# Altium footprint library TinyArduinoPCB.PcbLib: 9 footprints
Each footprint in its own frame and in the unit in brackets; x right, y up, seen from the top. Pads: shape width x height; smd on the part's side, far side on the other; paste and mask are expansions set on the pad; w line width, h text height; cw(c..) or ccw(c..) is an arc to the next point about the centre after c.
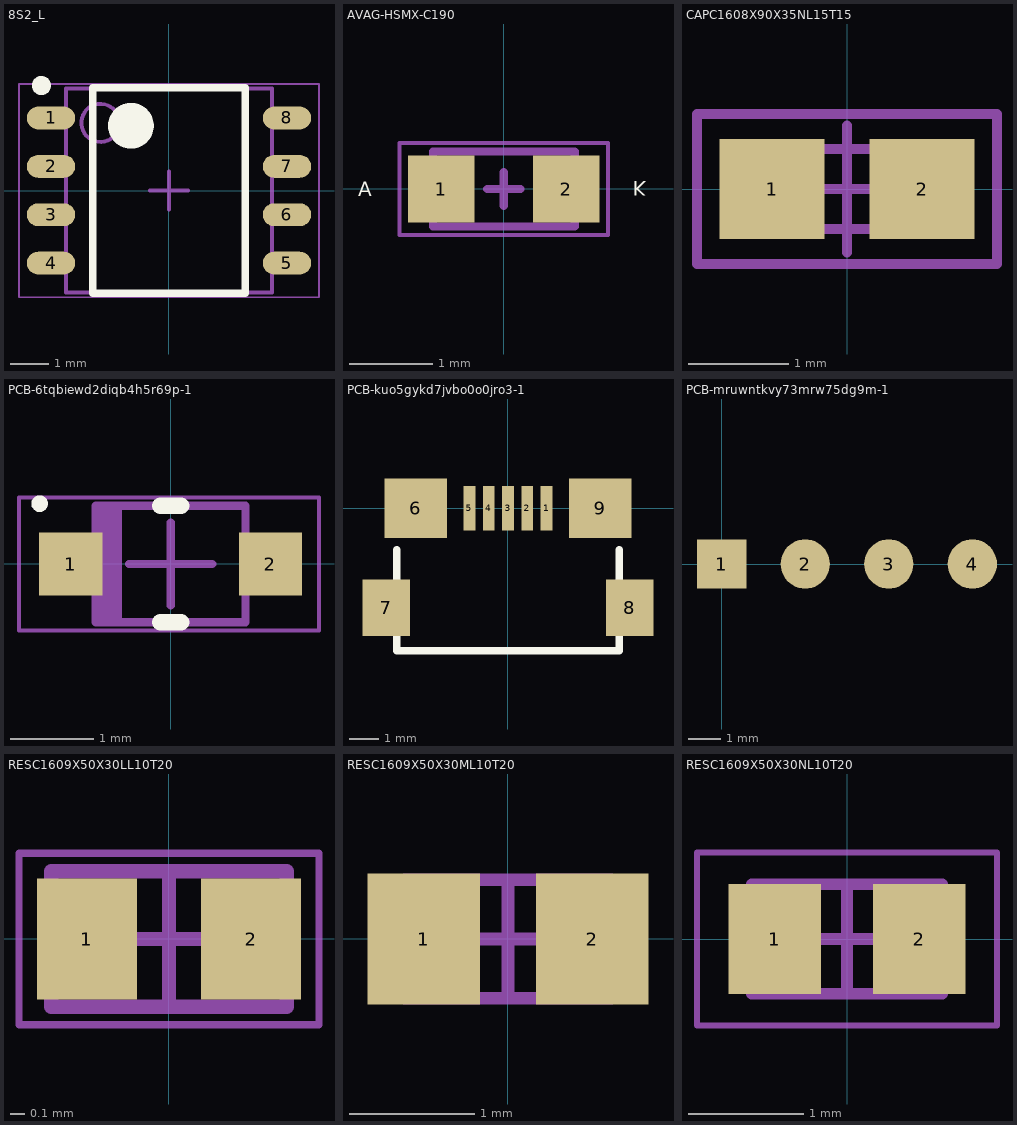
[diagram p0: the footprints below, top view; thin cyan lines are the x and y axes]

## 8S2_L [mm] "SOP, 8-Leads, Body 5.3x5.3mm, Pitch 1.27mm, IPC High Density"
height 2.16
pads (8):
  oval 1.27x0.6 smd: 1(-3.096,1.905) 2(-3.096,0.635) 3(-3.096,-0.635) 4(-3.096,-1.905) 5(3.096,-1.905) 6(3.096,-0.635) 7(3.096,0.635) 8(3.096,1.905)
Top Overlay:
  circle w0.6: c-1,1.7 r0.3
  circle w0.25: c-3.35,2.755 r0.125
  lines w0.2: -2,-2.7 2,-2.7 2,2.7 1,2.7 -1,2.7 -2,2.7 -2,-2.7
Mechanical 13:
  circle w0.1: c-1.8,1.775 r0.5
  lines w0.1: -2.7,-2.675 2.7,-2.675 2.7,2.675 -2.7,2.675 -2.7,-2.675
Mechanical 15:
  lines w0.05: -3.937,-2.8 3.937,-2.8 3.937,2.8 -3.937,2.8 -3.937,-2.8
  lines w0.1: -0.5,0 0.5,0 ; 0,-0.5 0,0.5
3D body: height 2.16, standoff 0.05, extent -2.7,-2.675 2.7,2.675

## AVAG-HSMX-C190 [mm] "AVAG-HSMX-C190"
height 0.9
pads (2):
  rect 0.8x0.8 smd: 1(-0.75,0) 2(0.75,0)
Top Overlay:
  text "A" at -1.75,-0.15 h0.3
  text "K" at 1.55,0.15 h0.3
Mechanical 13:
  lines w0.1: -0.85,-0.45 0.85,-0.45 0.85,-0.2 cw(c0.85,0) 0.85,0.2 0.85,0.45 -0.85,0.45 -0.85,0.2 cw(c-0.85,0) -0.85,-0.2 -0.85,-0.45
Mechanical 15:
  lines w0.05: -1.25,-0.55 1.25,-0.55 1.25,0.55 -1.25,0.55 -1.25,-0.55
  lines w0.1: -0.2,0 0.2,0 ; 0,-0.2 0,0.2
3D body: height 0.4, standoff 0, extent -0.851,-0.351 -0.449,0.351
3D body: height 0.4, standoff 0, extent 0.449,-0.351 0.851,0.351
3D body: height 0.41, standoff 0, extent 0.551,0.176 0.749,0.374
3D body: height 0.9, standoff 0.4, extent -0.549,-0.449 0.549,0.449
3D body: height 0.4, standoff 0, extent -0.849,-0.449 0.849,0.449

## CAPC1608X90X35NL15T15 [mm] "CAPC1608X90X35NL15T15"
height 0.9
pads (2):
  rect 1.05x1 smd: 1(-0.75,0) 2(0.75,0)
Mechanical 13:
  lines w0.1: -0.8,-0.4 0.8,-0.4 0.8,0.4 -0.8,0.4 -0.8,-0.4
Mechanical 15:
  lines w0.1: -0.635,0 0.635,0 ; 0,-0.635 0,0.635 ; -1.5,-0.75 1.5,-0.75 1.5,0.75 -1.5,0.75 -1.5,-0.75
3D body: height 0.55, standoff 0, extent -0.8,-0.4 0.8,0.4

## PCB-6tqbiewd2diqb4h5r69p-1 [mil] "DIOD-1N4148WS-SOD-323-2"
height 47.24
pads (2):
  rect 30x30 smd: 1(-47.24,0) 2(47.24,0)
Top Overlay:
  circle w3.94: c-62,28.54 r1.97
  lines w7.87: -4.92,-27.56 4.92,-27.56 ; -4.92,27.56 4.92,27.56
Mechanical 13:
  rectangle: -35.43,-27.56 -23,27.56
  lines w3.94: -35.43,-27.56 -35.43,27.56 35.43,27.56 35.43,-27.56 -35.43,-27.56
Mechanical 15:
  lines w1.97: -71.77,-31.5 -71.77,31.5 70.23,31.5 70.23,-31.5 -71.77,-31.5
  lines w3.94: -19.68,0 19.69,0 ; 0,-19.68 0,19.69
Mechanical 27:
  text "fixture" at 0,0 h60
3D body: height 47.24, standoff 0, extent -35.43,-27.56 35.43,27.56

## PCB-kuo5gykd7jvbo0o0jro3-1 [mm] "Footprint - Hirose Electric (HRS) HISZX62RB5P"
pads (9):
  rect 0.4x1.5 smd: 1(1.3,0) 2(0.65,0) 3(0,0) 4(-0.65,0) 5(-1.3,0)
  rect 2.1x2 smd: 6(-3.1,0) 9(3.1,0)
  rect 1.6x1.9 smd: 7(-4.1,-3.35) 8(4.1,-3.35)
Top Overlay:
  lines w0.254: -3.75,-1.4 -3.75,-4.8 3.75,-4.8 3.75,-1.4
3D body: height 2.71, standoff -0.23, extent -4.4,-6.331 4.4,-0.6

## PCB-mruwntkvy73mrw75dg9m-1 [mm]
pads (4):
  rect 1.5x1.5 smd: 1(0,0)
  round 1.5 smd: 2(2.54,0) 3(5.08,0) 4(7.62,0)
3D body: height 9.25, standoff -2.9, extent -1.27,-1.25 1.47,1.25
3D body: height 9.25, standoff -2.9, extent 6.15,-1.25 8.89,1.25
3D body: height 9.25, standoff -2.9, extent 1.07,-1.25 4.01,1.25
3D body: height 9.25, standoff -2.9, extent 3.61,-1.25 6.55,1.25

## RESC1609X50X30LL10T20 [mm] "RESC1609X50X30LL10T20"
height 0.5
pads (2):
  rect 0.7x0.85 smd: 1(-0.575,0) 2(0.575,0)
Mechanical 13:
  lines w0.1: -0.825,-0.475 -0.825,0.475 0.825,0.475 0.825,-0.475 -0.825,-0.475
Mechanical 15:
  lines w0.05: -1.05,-0.6 -1.05,0.6 1.05,0.6 1.05,-0.6 -1.05,-0.6
  lines w0.1: -0.475,0 0.475,0 ; 0,-0.475 0,0.475
3D body: height 0.5, standoff 0, extent -0.525,-0.475 0.525,0.475
3D body: height 0.5, standoff 0, extent -0.825,-0.475 -0.525,0.475
3D body: height 0.5, standoff 0, extent 0.525,-0.475 0.825,0.475

## RESC1609X50X30ML10T20 [mm] "RESC1609X50X30ML10T20"
height 0.5
pads (2):
  rect 0.9x1.05 smd: 1(-0.675,0) 2(0.675,0)
Mechanical 13:
  lines w0.1: -0.825,-0.475 -0.825,0.475 0.825,0.475 0.825,-0.475 -0.825,-0.475
Mechanical 15:
  lines w0.1: -0.475,0 0.475,0 ; 0,-0.475 0,0.475
3D body: height 0.5, standoff 0, extent -0.525,-0.475 0.525,0.475
3D body: height 0.5, standoff 0, extent -0.825,-0.475 -0.525,0.475
3D body: height 0.5, standoff 0, extent 0.525,-0.475 0.825,0.475

## RESC1609X50X30NL10T20 [mm] "RESC1609X50X30NL10T20"
height 0.5
pads (2):
  rect 0.8x0.95 smd: 1(-0.625,0) 2(0.625,0)
Mechanical 13:
  lines w0.1: -0.825,-0.475 -0.825,0.475 0.825,0.475 0.825,-0.475 -0.825,-0.475
Mechanical 15:
  lines w0.05: -1.3,-0.75 -1.3,0.75 1.3,0.75 1.3,-0.75 -1.3,-0.75
  lines w0.1: -0.475,0 0.475,0 ; 0,-0.475 0,0.475
3D body: height 0.5, standoff 0, extent -0.525,-0.475 0.525,0.475
3D body: height 0.5, standoff 0, extent -0.825,-0.475 -0.525,0.475
3D body: height 0.5, standoff 0, extent 0.525,-0.475 0.825,0.475